# EAGLE library part AD5121BCPZ10-RL7 (library ADS5121B)
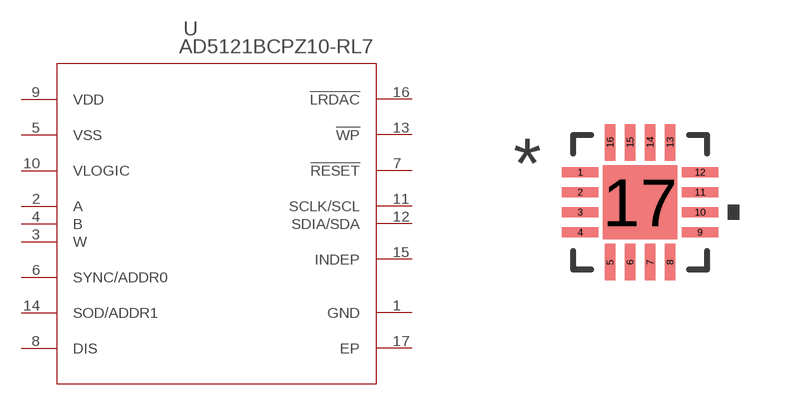
[diagram p0: symbol with the pads of CP_16_22_ADI-M; footprint CP_16_22_ADI-M]

Designator prefix U

## AD5121BCPZ10-RL7CP_16_22_ADI-M (COPYRIGHT: Copyright (C) 2023 Ultra Librarian. All rights reserved.; MANUFACTURER_PART_NUMBER: AD5121BCPZ10-RL7; MFR_NAME: Analog Devices Inc)  [CP_16_22_ADI-M]
1  GND  pas
2  A  pas
3  W  pas
4  B  pas
5  VSS  pas
6  SYNC/ADDR0  pas
7  !RESET  pas
8  DIS  pas
9  VDD  pas
10  VLOGIC  pas
11  SCLK/SCL  pas
12  SDIA/SDA  pas
13  !WP  pas
14  SOD/ADDR1  pas
15  INDEP  pas
16  !LRDAC  pas
17  EP  pas

## Footprint CP_16_22_ADI-M (pad centres in mm)
smd 0.914 x 0.254: 1 -1.499,0.75; 2 -1.499,0.25; 3 -1.499,-0.25; 4 -1.499,-0.75; 9 1.499,-0.75; 10 1.499,-0.25; 11 1.499,0.25; 12 1.499,0.75
smd 0.254 x 0.914: 5 -0.75,-1.499; 6 -0.25,-1.499; 7 0.25,-1.499; 8 0.75,-1.499; 13 0.75,1.499; 14 0.25,1.499; 15 -0.25,1.499; 16 -0.75,1.499
smd 1.854 x 1.854: 17 0,0